# Altium footprint library DAC8760-PCPLIB.PcbLib: 10 footprints
Each footprint in its own frame and in the unit in brackets; x right, y up, seen from the top. Pads: shape width x height; smd on the part's side, far side on the other; paste and mask are expansions set on the pad; w line width, h text height; cw(c..) or ccw(c..) is an arc to the next point about the centre after c.
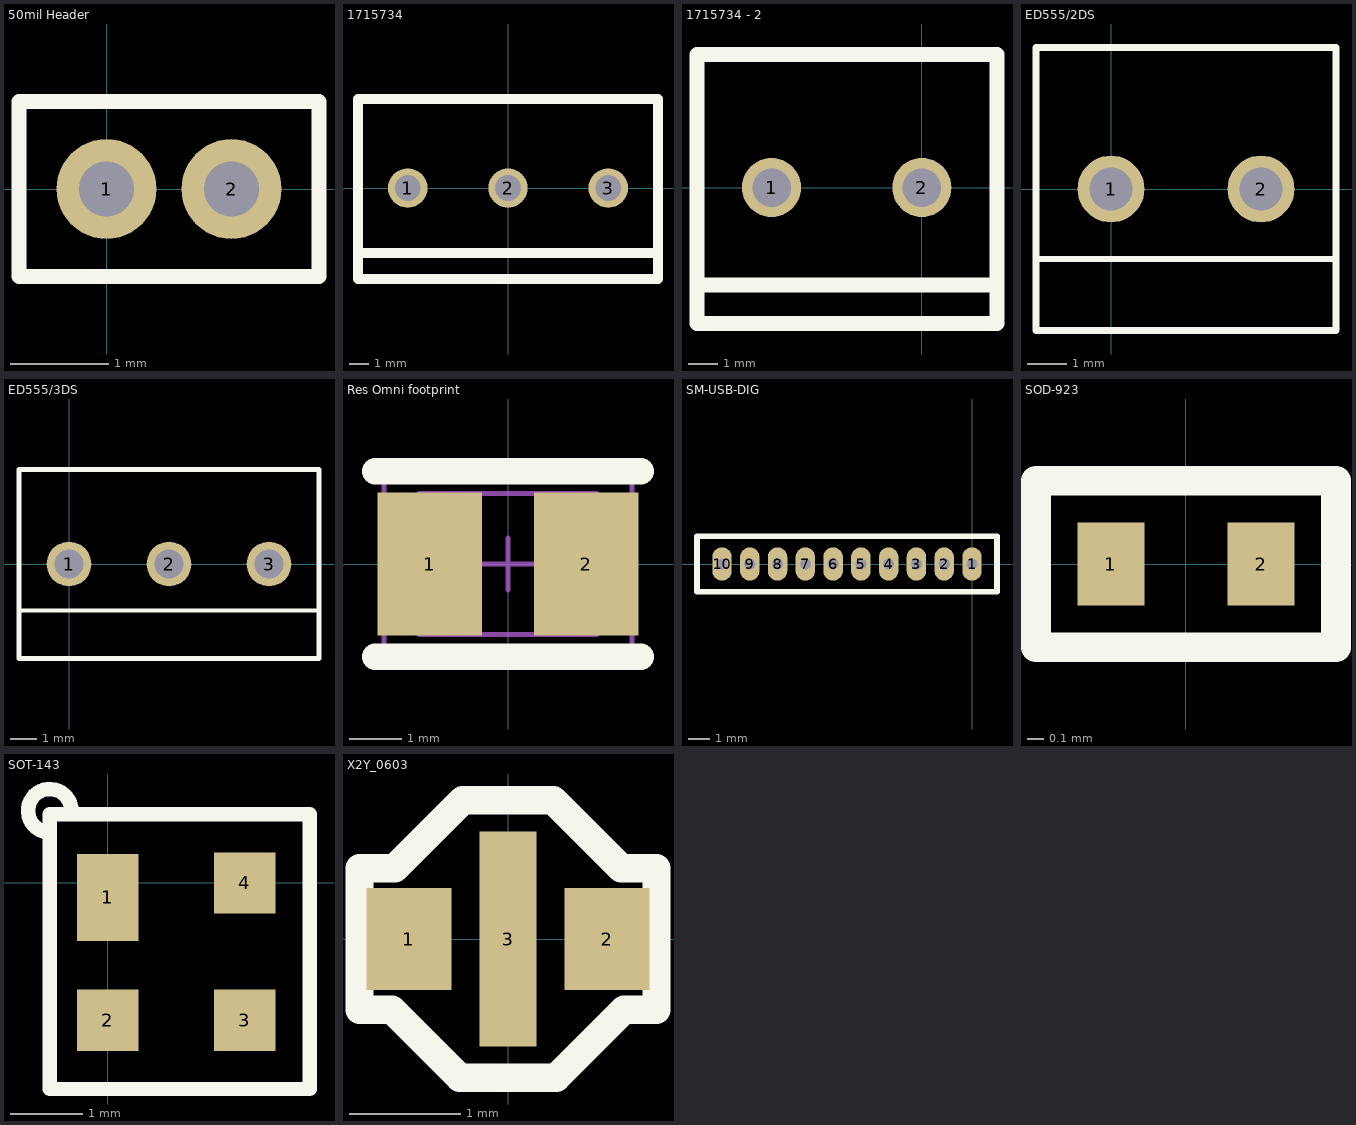
[diagram p0: the footprints below, top view; thin cyan lines are the x and y axes]

## 50mil Header [mil]
pads (2):
  round 40 hole 22: 1(0,0) 2(50,0)
Top Overlay:
  lines w6: -35,-35 85,-35 85,35 -35,35 -35,-35

## 1715734 [mm] "CONN TERM BLOCK 3POS 5.08MM PCB"
height 13.8
pads (3):
  round 2 hole 1.3: 1(-5.08,0) 2(0,0) 3(5.08,0)
Top Overlay:
  lines w0.508: -7.6,-3.3 7.6,-3.3 ; -7.6,-4.6 -0.2,-4.6 7.6,-4.6 7.6,4.5 -7.6,4.5 -7.6,-4.6
M5 Assembly Top:
  text ".Designator" at -7.4,5.2 h1.02
3D body: height 9, standoff 0, extent -7.6,-4.6 7.6,4.5

## 1715734 - 2 [mm] "CONN TERM BLOCK 2POS 5.08MM PCB"
height 13.8
pads (2):
  round 2 hole 1.3: 1(-5.08,0) 2(0,0)
Top Overlay:
  lines w0.508: -7.6,-3.3 2.54,-3.3 ; -7.6,-4.6 -0.2,-4.6 2.54,-4.6 2.54,4.5 -7.6,4.5 -7.6,-4.6
M5 Assembly Top:
  text ".Designator" at -7.4,5.2 h1.02
3D body: height 9, standoff 0, extent -7.6,-4.6 2.54,4.5

## ED555/2DS [mm] "TERMINAL BLOCK 3.5MM 2POS PCB"
pads (2):
  round 1.7 hole 1.1: 1(0,0) 2(3.81,0)
Top Overlay:
  lines w0.152: -1.905,-1.778 5.715,-1.778
  lines w0.178: -1.905,-3.6 -1.905,0 -1.905,3.6 1.905,3.6 5.715,3.6 5.715,0 5.715,-3.6 1.905,-3.6 -1.905,-3.6
M5 Assembly Top:
  text ".Designator" at -2.794,4.572 h1.02
3D body: height 8.52, standoff -3.48, extent -1.905,-3.599 5.715,3.701

## ED555/3DS [mm] "TERMINAL BLOCK 3.5MM 3POS PCB"
pads (3):
  round 1.7 hole 1.1: 1(0,0) 2(3.81,0) 3(7.62,0)
Top Overlay:
  lines w0.152: -1.905,-1.778 9.525,-1.778
  lines w0.178: -1.905,-3.6 1.905,-3.6 5.715,-3.6 9.525,-3.6 9.525,0 9.525,3.6 5.715,3.6 1.905,3.6 -1.905,3.6 -1.905,0 -1.905,-3.6
M5 Assembly Top:
  text ".Designator" at -2.286,4.572 h1.02
3D body: height 6.35, standoff 0, extent -1.905,-3.7 9.525,3.6

## Res Omni footprint [mm] "Chip Resistor, 2-Leads, 0603-1210"
height 0.6
pads (2):
  rect 2x2.75 smd: 1(-1.5,0) 2(1.5,0)
Top Overlay:
  lines w0.508: -2.54,-1.778 2.54,-1.778 ; -2.54,1.778 2.54,1.778
M13 Component Bodies Top:
  lines w0.1: -1.7,-1.35 1.7,-1.35 1.7,1.35 -1.7,1.35 -1.7,-1.35
M15  Courtyards Top:
  lines w0.1: -0.5,0 0.5,0 ; 0,-0.5 0,0.5 ; -2.375,-1.625 2.375,-1.625 2.375,1.625 -2.375,1.625 -2.375,-1.625
3D body: height 0.6, standoff 0, extent -1.7,-1.35 1.7,1.35

## SM-USB-DIG [mil]
pads (10):
  oval 35x60 hole 20: 1(0,0) 2(-50,0) 3(-100,0) 4(-150,0) 5(-200,0) 6(-250,0) 7(-300,0) 8(-350,0) 9(-400,0) 10(-450,0)
Top Overlay:
  lines w10: -495,-50 45,-50 45,50 -495,50 -495,-50
3D body: height 87, standoff -110.51, extent -482.5,-8.01 32.5,210

## SOD-923 [mm]
pads (2):
  rect 0.4x0.5 smd: 1(-0.45,0) 2(0.45,0)
Top Overlay:
  lines w0.178: -0.9,-0.5 0.9,-0.5 0.9,0.5 -0.9,0.5 -0.9,0 -0.9,-0.5

## SOT-143 [mm]
pads (4):
  rect 0.85x1.2 smd: 1(0,-0.2)
  rect 0.85x0.85 smd: 2(0,-1.9) 3(1.9,-1.9) 4(1.9,0)
Top Overlay:
  lines w0.2: -0.8,0.7 cw(c-0.8,1) -0.5,1 ; 0.64,0.95 1.425,0.95 ; -0.8,-2.85 2.8,-2.85 2.8,0.95 -0.8,0.95 -0.8,-2.85
3D body: height 1, standoff 0, extent -0.26,-2.41 2.16,0.51

## X2Y_0603 [mil]
pads (3):
  rect 30x36 smd: 1(-35,0) 2(35,0)
  rect 20x76 smd: 3(0,0)
Top Overlay:
  lines w10: -52.5,-25 -41,-25 -17,-49 17,-49 41,-25 52.5,-25 52.5,25 40,25 16,49 -16,49 -40,25 -52.5,25 -52.5,0 -52.5,-25
Top Solder:
  rectangle: -20,-22 20,22